# EAGLE library part ADC161S626 (library open-ephys)
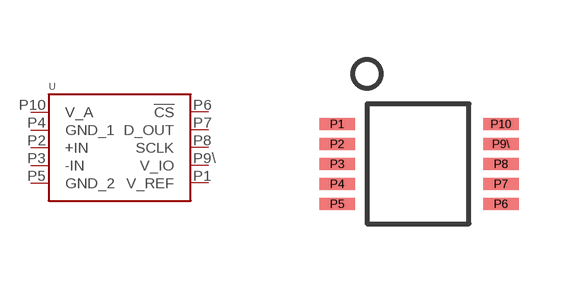
[diagram p10: symbol with the pads of 10-MSOP; footprint 10-MSOP]

Designator prefix -

## ADC161S626  [10-MSOP]
P1  V_REF
P2  +IN
P3  -IN
P4  GND_1
P5  GND_2
P6  !CS!
P7  D_OUT
P8  SCLK
P9\  V_IO
P10  V_A

## Footprint 10-MSOP (pad centres in mm)
smd 0.889 x 0.305: P1 0,2; P2 0,1.5; P3 0,1; P4 0,0.5; P5 0,0; P6 4.1,0; P7 4.1,0.5; P8 4.1,1; P9\ 4.1,1.5; P10 4.1,2